# EAGLE library part DRV134UA (library nw2s)
AUDIO BALANCED LINE DRIVERS
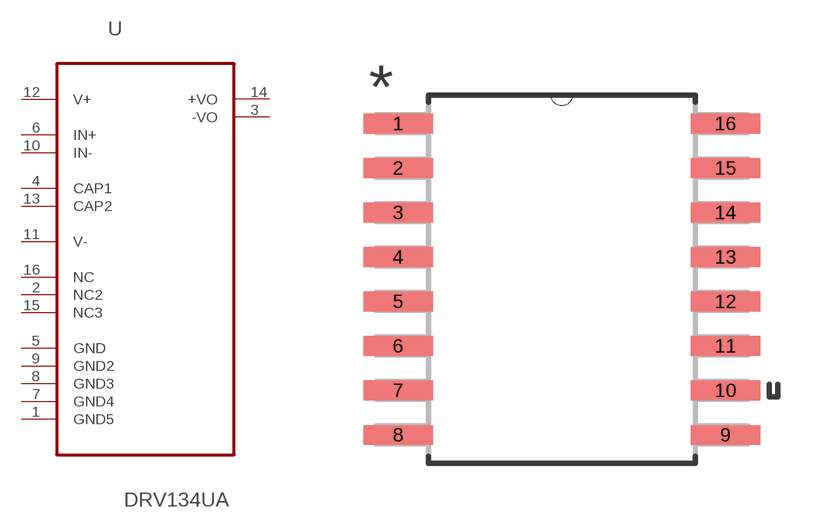
[diagram p1: symbol with the pads of SOIC127P1030X265-16N; footprint SOIC127P1030X265-16N]

Designator prefix U

## DRV134UA (MPN: DRV134UA; OC_FARNELL: -; OC_NEWARK: 80K5822; PACKAGE: SOIC-16; SUPPLIER: TEXAS INSTRUMENTS)  [SOIC127P1030X265-16N]
1  GND5  nc
2  NC2  nc
3  -VO  out
4  CAP1  pas
5  GND  pas
6  IN+  in
7  GND4  nc
8  GND3  nc
9  GND2  nc
10  IN-  nc
11  V-  pwr
12  V+  pwr
13  CAP2  pas
14  +VO  out
15  NC3  nc
16  NC  nc

## Footprint SOIC127P1030X265-16N (pad centres in mm)
smd 1.981 x 0.559: 1 -4.674,4.445; 2 -4.674,3.175; 3 -4.674,1.905; 4 -4.674,0.635; 5 -4.674,-0.635; 6 -4.674,-1.905; 7 -4.674,-3.175; 8 -4.674,-4.445; 9 4.674,-4.445; 10 4.674,-3.175; 11 4.674,-1.905; 12 4.674,-0.635; 13 4.674,0.635; 14 4.674,1.905; 15 4.674,3.175; 16 4.674,4.445